# EAGLE library part 41464 (library 68komputer)
64K x 4 DRAM Datasheets: µPD41464 <https://downloads.reactivemicro.com/Electronics/DRAM/NEC%20D41464%2064k%20x%204bit%20DRAM%20Data%20Sheet.pdf>
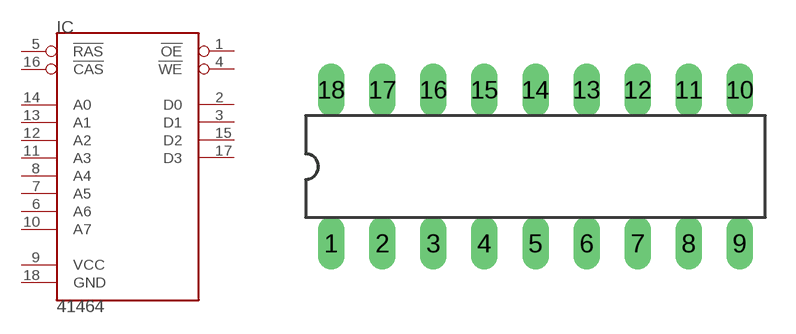
[diagram p35: symbol with the pads of DIL18; footprint DIL18]

Designator prefix IC

## 41464DIL18 (VALUE: 41464)  [DIL18]
1  !OE  in
2  D0
3  D1
4  !WE  in
5  !RAS  in
6  A6  in
7  A5  in
8  A4  in
9  VCC  pwr
10  A7  in
11  A3  in
12  A2  in
13  A1  in
14  A0  in
15  D2
16  !CAS  in
17  D3
18  GND  pwr

## Footprint DIL18 (pad centres in mm)
Dual In Line package type P
drill 0.813 long: 1 -10.16,-3.81; 2 -7.62,-3.81; 3 -5.08,-3.81; 4 -2.54,-3.81; 5 0,-3.81; 6 2.54,-3.81; 7 5.08,-3.81; 8 7.62,-3.81; 9 10.16,-3.81; 10 10.16,3.81; 11 7.62,3.81; 12 5.08,3.81; 13 2.54,3.81; 14 0,3.81; 15 -2.54,3.81; 16 -5.08,3.81; 17 -7.62,3.81; 18 -10.16,3.81